# Altium schematic symbol library Dehumidity.SCHLIB: 27 symbols
Pins are listed as number, name and electrical type; pins without a type are passive.

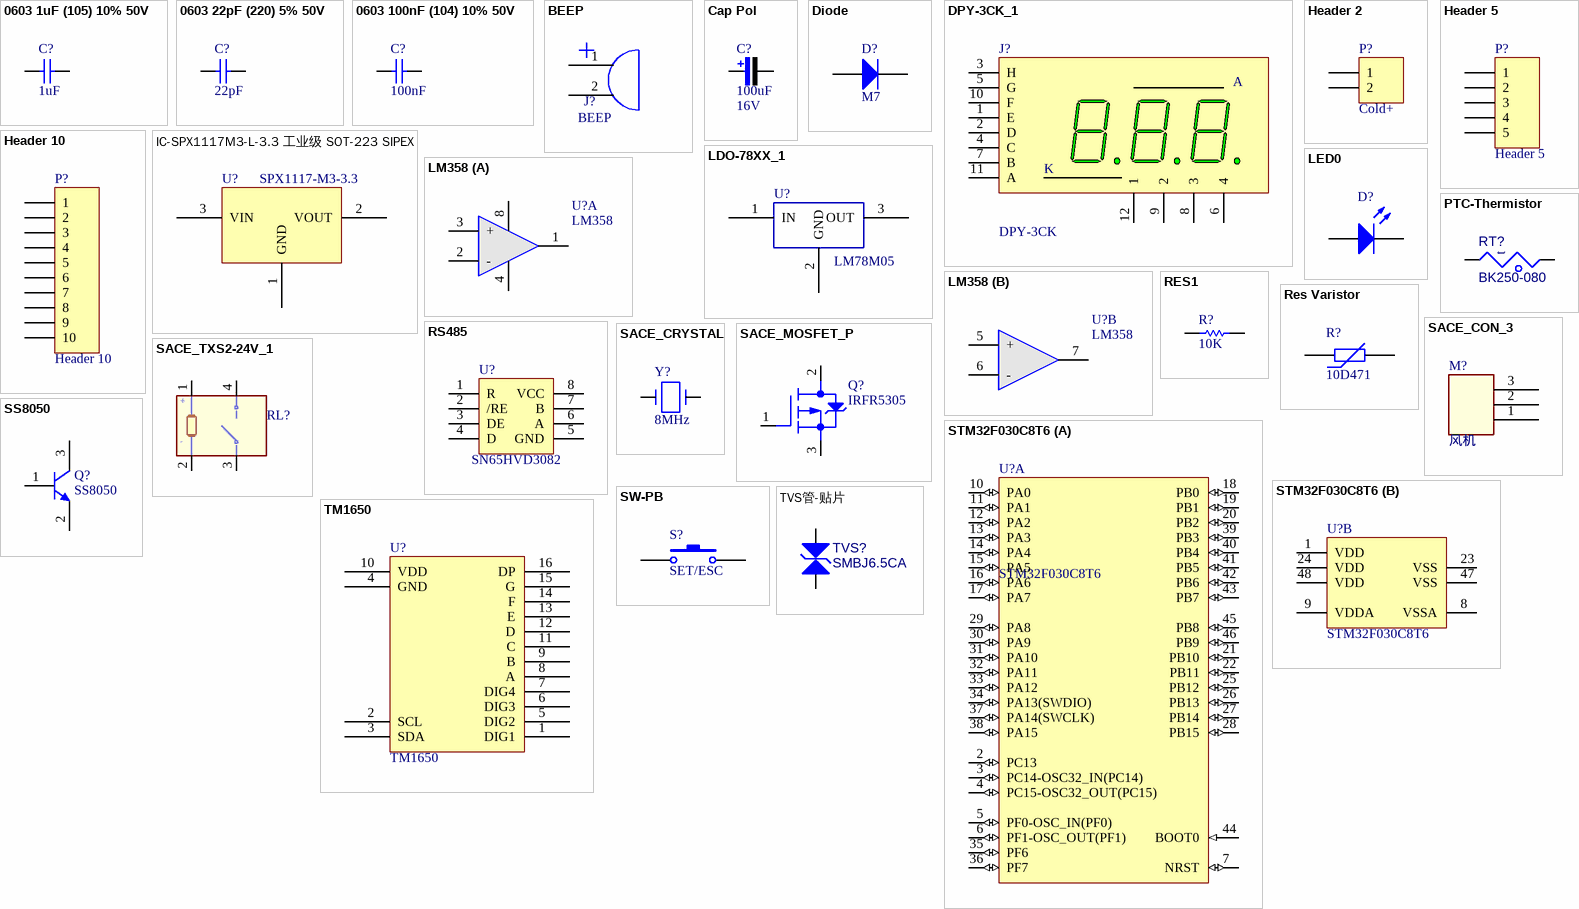
[diagram p0: symbols 0603 1uF (105) 10% 50V to TVS管-贴片]

## 0603 1uF (105) 10% 50V
designator C?, comment 1uF (105) 10% 50V  (value not drawn)
贴片电容; ComponentLink1Description: 供应商链接; ComponentLink1URL: http://www.szlcsc.com/product/details_16531.html; Package: 0603; Supplier: LC; SuppliersPartNumber: C15849
footprint 0603_C
pins: 1, 2
text: 1uF

## 0603 22pF (220) 5% 50V
designator C?, comment 22pF (220) 5% 50V  (value not drawn)
贴片电容; ComponentLink1Description: 供应商链接; ComponentLink1URL: http://www.szlcsc.com/product/details_2005.html; Package: 0603; Supplier: LC; SuppliersPartNumber: C1653
footprint 0603_C
pins: 1, 2
text: 22pF

## 0603 100nF (104) 10% 50V
designator C?, comment 100nF (104) 10% 50V  (value not drawn)
贴片电容; ComponentLink1Description: 供应商链接; ComponentLink1URL: http://www.szlcsc.com/product/details_15331.html; Package: 0603; Supplier: LC; SuppliersPartNumber: C14663
footprint 0603_C
pins: 1, 2
text: 100nF

## BEEP
designator J?
蜂鸣器
footprint Beep0905 (蜂鸣器)
pins: 1 0, 2 1

## Cap Pol
designator C?  value 100uF  Vol: 16V  (hidden comment: Cap Pol)
极性电解电容; Published: 8-Jun-2000; LatestRevisionDate: 17-Jul-2002; LatestRevisionNote: Re-released for DXP Platform.; PackageReference: RB7.6-15; Publisher: Altium Limited
footprint CAP-7343 (钽电容)
footprint CAP-3528 (钽电容)
footprint CAP-3216 (钽电容)
footprint C-RB-S10 (贴片电解)
footprint C-RB-S6 (贴片电解)
footprint CAP-6032 (钽电容)
footprint CAP-1206 (贴片元件)
footprint C-RB-18 (35V2200uF电容)
footprint C-RB-8 (35V 220UF电容)
footprint C-RB-12 (35V470uF电容)
footprint C-RB-S8 (贴片电解)
pins: 1, 2
1 alternate drawing of the same symbol

## Diode
designator D?, comment M7
二极管; Published: 8-Jun-2000; LatestRevisionDate: 17-Jul-2002; LatestRevisionNote: Re-released for DXP Platform.; PackageDocument: Sep-1996; PackageReference: SMC; Publisher: Altium Limited; Code_JEDEC: DO-214-AB; Type: M7
footprint DIODE-AXL (直插二极管)
footprint DIODE-1206 (玻璃封装二极管)
footprint DO214AC-SMA
pins: 1 A, 2 K

## DPY-3CK_1
designator J?, comment DPY-3CK
共阴3位数码管
footprint DYP-3BIT_2.8 (数码管)
pins: 1 E "Anode", 2 D "Anode", 3 H "Anode", 4 C "Anode", 5 G "Anode", 6 4 "Cathode", 7 B "Anode", 8 3 "Anode", 9 2 "Anode", 10 F "Anode", 11 A "Anode", 12 1 "Cathode"
text: K

## Header 2
designator P?, comment Cold+
Header, 2-Pin; LatestRevisionDate: 17-Jul-2002; LatestRevisionNote: Re-released for DXP Platform.; Publisher: Altium Limited
footprint ConSlice0.5
signal-integrity model Connector
pins: 1, 2

## Header 5
designator P?
Header, 5-Pin; LatestRevisionDate: 17-Jul-2002; LatestRevisionNote: Re-released for DXP Platform.; Publisher: Altium Limited
footprint HDR1X5 (Connector; Header; 5 Position)
signal-integrity model Connector ([Unknown model type, plugin missing])
pins: 1, 2, 3, 4, 5

## Header 10
designator P?
Header, 10-Pin; LatestRevisionDate: 17-Jul-2002; LatestRevisionNote: Re-released for DXP Platform.; Publisher: Altium Limited
footprint HDR3.54-10P
pins: 1, 2, 3, 4, 5, 6, 7, 8, 9, 10

## IC-SPX1117M3-L-3.3 工业级 SOT-223 SIPEX
designator U?, comment SPX1117-M3-3.3
IC; U_TABLE: U_IC; LH: I03-011173-601; U_ITEM_ID（U_ITEM_ID）: Part00003063; U_OBJECT_NAME（U_OBJECT_NAME）: 芯片; U_CL2_ITEMR_00（U_CL2_ITEMR_00）: SPX1117M3-L-3.3 工业级 SOT-223 SIPEX; U_1002（U_1002）: SIPEX; U_200002（U_200002）: SPX1117M3-L-3.3; U_200003（U_200003）: 工业级; U_200004（U_200004）: SOT-223; U_CL2_ITEMM_00（U_CL2_ITEMM_00）: I03-011173-601
footprint IC-SOT-223
footprint DPAK
footprint SOT223
pins: 1 GND, 2 VOUT, 3 VIN

## LDO-78XX_1
designator U?, comment LM78M05
LDO; PART CODE: ?
footprint DPAK
footprint TO-220
footprint IC-SOT-89 (Footprint not found)
pins: 1 IN, 2 GND, 3 OUT
2 alternate drawings of the same symbol

## LED0
designator D?, comment LED  (value not drawn)
Typical INFRARED GaAs LED; Published: 8-Jun-2000; LatestRevisionDate: 08-Jul-2005; LatestRevisionNote: Mech Layer 1 removed.; PackageReference: LED-0; Publisher: Altium Limited
footprint LED-0 (Typical INFRARED GaAs LED; 2 Leads)
simulation model LED0 (Diode)
footprint LED(小)
footprint LED(小)
pins: 1 A, 2 K

## LM358
designator U?
双运放
footprint NSO8_N (SOIC-max660)
part A pins: 1 OUT1, 2 -, 3 +, 4 V- (power), 8 V+ (power)
part B pins: 5 +, 6 -, 7 OUT2

## PTC-Thermistor
designator RT?, comment BK250-080
热敏电阻
footprint RT-MF12D5.5T-7.5
footprint RAD0.2
pins: 1, 2
text: t

## RES1
designator R?, comment 10K
10K/±10%; 零件名称: 贴片电阻
footprint R-0805
footprint 0603
footprint RESC1608N-R0603
footprint 0603_R
pins: 1, 2

## Res Varistor
designator R?, comment 10D471
Varistor (Voltage-Sensitive Resistor); Published: 24-Mar-1999; LatestRevisionDate: 29-May-2009; LatestRevisionNote: IPC-7351 Footprint Added.; PackageVersion: Mar-2003; PackageReference: 6-0805; Publisher: Altium Limited; PackageDescription: Chip Resistor 0805 Case Size; Code_IPC: RESC2012
footprint 10D471K
footprint RESC2012L (Chip Resistor, Body 2.0x1.2mm, IPC High Density)
footprint RESC2012M (Chip Resistor, Body 2.0x1.2mm, IPC Low Density)
pins: 1, 2

## RS485
designator U?, comment SN65HVD3082
footprint SO-8
footprint SO-8
pins: 1 R, 2 /RE, 3 DE, 4 D, 5 GND, 6 A, 7 B, 8 VCC
2 alternate drawings of the same symbol

## SACE_CON_3
designator M?, comment 风机
MALE CONN. 3 POLES P=7.62mm; Mfr_name1: WEIDMULLER; Mfr_Part_Number1: 1625260000; Part_type: MALE\THT; RU_code: RU6199001; Nr_pole: 3; Nr_row: 1; Prepared: BONOMI P.; Approved: LANZONI L.; Valore: 1625260000; Case_Size: -; Width: 8.5; Height: 12; Plating: -; Max_Operating_temp: -; Min_Operating_temp: -; Solderability_temp: -; Max_storage_temp: -; Min_storage_temp: -; Datasheet: K:\ORCAD CAPTURE CIS DATABASE\DATASHEET\CONNECTORS; Make_date: L6622; Last_rev_date: L6622; RoHs: True; Export_Control: N.A.
footprint connector3x2.5
pins: 1, 2, 3

## SACE_CRYSTAL
designator Y?, comment 8MHz
QUARTZ 8MHz SMD; Mfr_name1: 2B-ELETTRONICA; Mfr_Part_Number1: TP0871/F; Part_type: QUARTZ\SMD; RU_code: RU5608001; Prepared: BONOMI P.; Approved: MANZOLI R.; PackageID: RU5608001; Valore: 8MHz; Case_size: SMD; Datasheet: K:\ORCAD CAPTURE CIS DATABASE\DATASHEET\QUARTZ_RESONATOR; Make_date: L2587_DT; Last_rev_date: L3084_DT; RoHs: True; Export_Control: N.A.
footprint XTAL-HC49S
pins: 1, 2

## SACE_MOSFET_P
designator Q?, comment IRFR5305
P-CH MOSFET LOGIC LEVEL 12A 60V SMD; Mfr_name1: ST; Mfr_Part_Number1: STD12NF06L; Part_Type: MOSFET\N-CHANNEL\SMD; RU_code: RU5189002; PackageID: D-PAK_AA_PITCH2.286MM_2PINS; Solderability_temp: 10s at 275°C; Max_operating_temp: +175°C; Min_operating_temp: -55°C; Prepared: BONOMI P.; Approved: MANZOLI R.; Notes: ST: / STD12NE06L-T4 is obsolete; Tolerance: -; Case_size: DPAK; Max_storage_temp: +175°C; Min_storage_temp: -55°C; Datasheet: K:\ORCAD CAPTURE CIS DATABASE\DATASHEET\DISCRETE; Make_date: L2587_DT; Last_rev_date: L3084_DT; RoHs: True; Export Control: N.A.; Valore: IRFR5305
footprint DPAK
pins: 1 G, 2 D, 3 S

## SACE_TXS2-24V_1
designator RL?, comment TXS2-24V  (value not drawn)
MONOSTABLE RELAY 2POLES 110V 1A COIL24V; Mfr_name1: PANASONIC; Part_type: MONOSTABILE\THT; RU_code: RU6550001; Rated_voltage: 24; Max_operating_temp: +70°C; Min_operating_temp: -40°C; Life: 5x10^7 operations; Prepared: BONOMI P.; Approved: LANZONI L.; Valore: TXS2-24V; Mfr_Part_Number1: TXS2-24V; Case_Size: THT; Width: 7.4; Height: 8.2; Length: 15; Max_storage_temp: +70°C; Min_storage_temp: -40°C; Solderability_temp: -; Datasheet: K:\ORCAD CAPTURE CIS DATABASE\DATASHEET\RELAIS; Make_date: L9352; Last_rev_date: L9352; RoHs: True; Export_Control: N.A.
footprint ALDP112
footprint RL-TX-S
pins: 1, 2, 3, 4
text: +

## SS8050
designator Q?
NPN贴片三极管; Published: 8-Jun-2000; LatestRevisionDate: 15-Jan-2003; LatestRevisionNote: PCB Footprint 'BCY-W3/D4.7' replaced; DatasheetDocument: 1997; PackageDocument: Sep-1998; PackageReference: TO-92A; Publisher: Altium Limited; Code_JEDEC: TO-92A; ComponentLink1Description: Manufacturer Link; ComponentLink1URL: http://www.fairchildsemi.com/; ComponentLink2Description: Datasheet; ComponentLink2URL: http://www.fairchildsemi.com/ds/2N%2F2N3904.pdf
footprint SOT-23 (普通贴片三极管)
pins: 1 B, 2 E, 3 C

## STM32F030C8T6
designator U?
ARM Cortex-M0 32-bit MCU, 64 KB Flash, 8 KB Internal RAM, 39 I/Os, 48-pin LQFP, -40 to 85 degC, Tray; FLASH Size (Prog) (kB): 64; I/Os (High Current): 39; Internal RAM Size (kB): 8; Operating Frequency(F) (Processor speed) (MHz): 48; Supply Voltage(Vcc) min (V): 2.4; DatasheetVersion: Rev. 1; PackageVersion: Rev. 6, 06/2013; PackageReference: LQFP48; PackageDescription: 48-Pin Low Profile Quad Flat Package, 7 x 7 mm Body, 0.5 mm Pitch; Supplier 1: Digi-Key; Supplier Part Number 1: 497-14043-ND; Supplier 2: Newark; Supplier Part Number 2: 06X3647; Supplier 3: Mouser; Supplier Part Number 3: 511-STM32F030C8T6; Core: ARM Cortex-M0; Packing: Tray; Mounting Technology: Surface Mount; PartNumber: STM32F030C8T6; ComponentLink1Description: Manufacturer URL; ComponentLink1URL: http://www.st.com/web/en/home.html; ComponentLink2Description: Datasheet; ComponentLink2URL: http://www.st.com/st-web-ui/static/active/en/resource/technical/document/datasheet/DM00088500.pdf; ComponentLink3Description: Package Specification; ComponentLink3URL: http://www.st.com/st-web-ui/static/active/en/resource/technical/document/datasheet/DM00058181.pdf
footprint STM-LQFP48_N (QFP, 48-Leads, Body 7x7mm, Pitch 0.5mm, IPC Medium Density)
footprint STM-LQFP48_L (QFP, 48-Leads, Body 7x7mm, Pitch 0.5mm, IPC High Density)
footprint STM-LQFP48_M (QFP, 48-Leads, Body 7x7mm, Pitch 0.5mm, IPC Low Density)
part A pins: 2 PC13 (io) "PC13/RTC_TAMP1,RTC_TS,RTC_OUT,WKUP2", 3 PC14-OSC32_IN(PC14) (io) "PC14-OSC32_IN(PC14)/OSC32_IN", 4 PC15-OSC32_OUT(PC15) (io) "PC15-OSC32_OUT(PC15)/OSC32_OUT", 5 PF0-OSC_IN(PF0) (io) "PF0-OSC_IN(PF0)/OSC_IN", 6 PF1-OSC_OUT(PF1) (io) "PF1-OSC_OUT(PF1)/OSC_OUT", 7 NRST (io) "Device reset input / internal reset output (active low)", 10 PA0 (io) "PA0/USART2_CTS/ADC_IN0,RTC_TAMP2,WKUP1", 11 PA1 (io) "PA1/USART2_RTS,EVENTOUT/ADC_IN1", 12 PA2 (io) "PA2/USART2_TX,TIM15_CH1/ADC_IN2", 13 PA3 (io) "PA3/USART2_RX,TIM15_CH2/ADC_IN3", 14 PA4 (io) "PA4/SPI1_NSS/USART2_CK,TIM14_CH1/ADC_IN4", 15 PA5 (io) "PA5/SPI1_SCK/ADC_IN5", 16 PA6 (io) "PA6/SPI1_MISO,TIM3_CH1,TIM1_BKIN,TIM16_CH1,EVENTOUT/ADC_IN6", 17 PA7 (io) "PA7/SPI1_MOSI,TIM3_CH2,TIM14_CH1,TIM1_CH1N,TIM17_CH1,EVENTOUT/ADC_IN7", 18 PB0 (io) "PB0/TIM3_CH3,TIM1_CH2N,EVENTOUT/ADC_IN8", 19 PB1 (io) "PB1/TIM3_CH4,TIM14_CH1,TIM1_CH3N/ADC_IN9", 20 PB2 (io), 21 PB10 (io) "PB10/I2C2_SCL", 22 PB11 (io) "PB11/I2C2_SDA,EVENTOUT", 25 PB12 (io) "PB12/SPI2_NSS,TIM1_BKIN,EVENTOUT", 26 PB13 (io) "PB13/SPI2_SCK,TIM1_CH1N", 27 PB14 (io) "PB14/SPI2_MISO,TIM1_CH2N,TIM15_CH1", 28 PB15 (io) "PB15/SPI2_MOSI,TIM1_CH3N,TIM15_CH1N,TIM15_CH2/RTC_REFIN", 29 PA8 (io) "PA8/USART1_CK,TIM1_CH1,EVENTOUT,MCO", 30 PA9 (io) "PA9/USART1_TX,TIM1_CH2,TIM15_BKIN", 31 PA10 (io) "PA10/USART1_RX,TIM1_CH3,TIM17_BKIN", 32 PA11 (io) "PA11/USART1_CTS,TIM1_CH4,EVENTOUT", 33 PA12 (io) "PA12/USART1_RTS,TIM1_ETR,EVENTOUT", 34 PA13(SWDIO) (io) "PA13(SWDIO)/IR_OUT,SWDIO", 35 PF6 (io) "PF6/I2C2_SCL", 36 PF7 (io) "PF7/I2C2_SDA", 37 PA14(SWCLK) (io) "PA14(SWCLK)/USART2_TX,SWCLK", 38 PA15 (io) "PA15/SPI1_NSS,USART2_RX,EVENTOUT", 39 PB3 (io) "PB3/SPI1_SCK,EVENTOUT", 40 PB4 (io) "PB4/SPI1_MISO,TIM3_CH1,EVENTOUT", 41 PB5 (io) "PB5/SPI1_MOSI,I2C1_SMBA,TIM16_BKIN,TIM3_CH2", 42 PB6 (io) "PB6/I2C1_SCL,USART1_TX,TIM16_CH1N", 43 PB7 (io) "PB7/I2C1_SDA,USART1_RX,TIM17_CH1N", 44 BOOT0 (in) "Boot memory selection", 45 PB8 (io) "PB8/I2C1_SCL,TIM16_CH1", 46 PB9 (io) "PB9/I2C1_SDA,IR_OUT,TIM17_CH1,EVENTOUT"
part B pins: 1 VDD (power) "Digital power supply", 8 VSSA (power) "Analog ground", 9 VDDA (power) "Analog power supply", 23 VSS (power) "Ground", 24 VDD (power) "Digital power supply", 47 VSS (power) "Ground", 48 VDD (power) "Digital power supply"

## SW-PB
designator S?, comment SET/ESC
6*6*5四脚直插轻触开关; 零件名称: 直插开关
footprint Switch_4_6*6
pins: 1, 2

## TM1650
designator U?
footprint SOIC-16_150mil
pins: 1 DIG1, 2 SCL, 3 SDA, 4 GND, 5 DIG2, 6 DIG3, 7 DIG4, 8 A, 9 B, 10 VDD, 11 C, 12 D, 13 E, 14 F, 15 G, 16 DP

## TVS管-贴片
designator TVS?, comment SMBJ6.5CA
TVS
footprint 1812
footprint SMC
pins: 1 A, 2 K